# Altium schematic symbol library 031-5431-10RFX.SchLib: 1 symbol
Pins are listed as number, name and electrical type; pins without a type are passive.

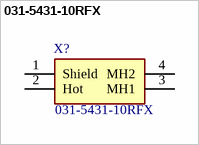
[diagram p0: symbol 031-5431-10RFX]

## 031-5431-10RFX
designator X?
Amphenol BNC Series Right Angle 50 Through Hole BNC Connector, jack, Nickel, Solder Termination; Geometry.Height: 15.6mm; Mouser Part Number: 523-31-5431-10RFX; Mouser Price/Stock: https://www.mouser.co.uk/ProductDetail/Amphenol-RF/031-5431-10RFX?qs=py4qCovljJ8doXL0muNs1w%3D%3D; Manufacturer_Name: Amphenol; Manufacturer_Part_Number: 031-5431-10RFX; Datasheet Link: https://datasheet.datasheetarchive.com/originals/distributors/Datasheets-DGA15/760686.pdf
pins: 1 Shield, 2 Hot, 3 MH1, 4 MH2